# Altium footprint library SPVS.PcbLib: 1 footprints
Each footprint in its own frame and in the unit in brackets; x right, y up, seen from the top. Pads: shape width x height; smd on the part's side, far side on the other; paste and mask are expansions set on the pad; w line width, h text height; cw(c..) or ccw(c..) is an arc to the next point about the centre after c.
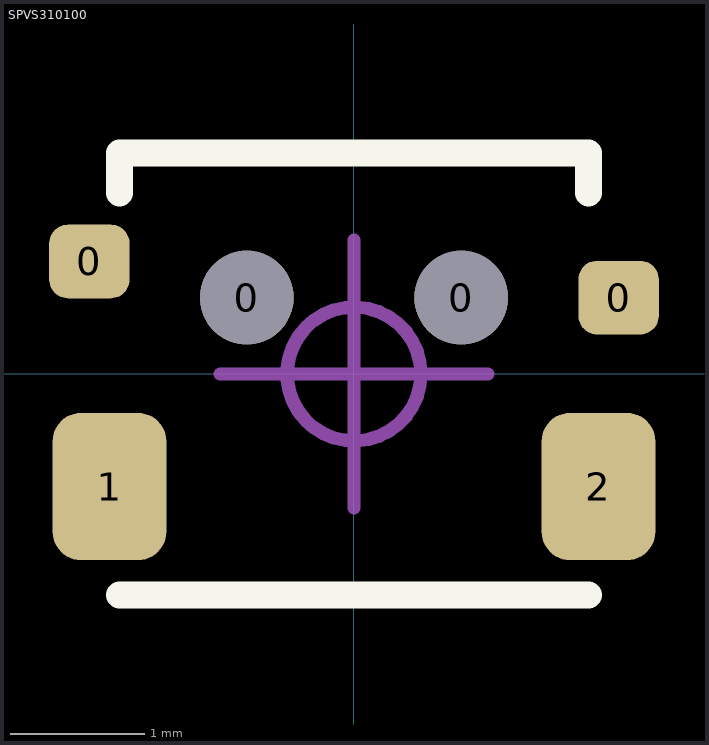
[diagram p0: the footprint, top view; thin cyan lines are the x and y axes]

## SPVS310100 [mm]
pads (6):
  rrect50% 0.6x0.55 smd: 0(-1.975,0.84) 0(1.975,0.57)
  round 0.7 hole 0.7: 0(-0.8,0.57) 0(0.8,0.57)
  rrect50% 0.85x1.1 smd: 1(-1.825,-0.84) 2(1.825,-0.84)
Top Overlay:
  lines w0.2: -1.75,-1.65 1.75,-1.65 ; -1.75,1.35 -1.75,1.65 1.75,1.65 1.75,1.35
Mechanical 15:
  circle w0.1: c0,0 r0.5
  lines w0.1: -1,0 1,0 ; 0,-1 0,1
3D body "SPVS310100.STEP": height 1.06, standoff -0.4, extent -2.09,-1.797 2.09,3.118